# Altium footprint library C2Sv0 - Processor.PcbLib: 32 footprints (part 2 of 2)
Each footprint in its own frame and in the unit in brackets; x right, y up, seen from the top. Pads: shape width x height; smd on the part's side, far side on the other; paste and mask are expansions set on the pad; w line width, h text height; cw(c..) or ccw(c..) is an arc to the next point about the centre after c.
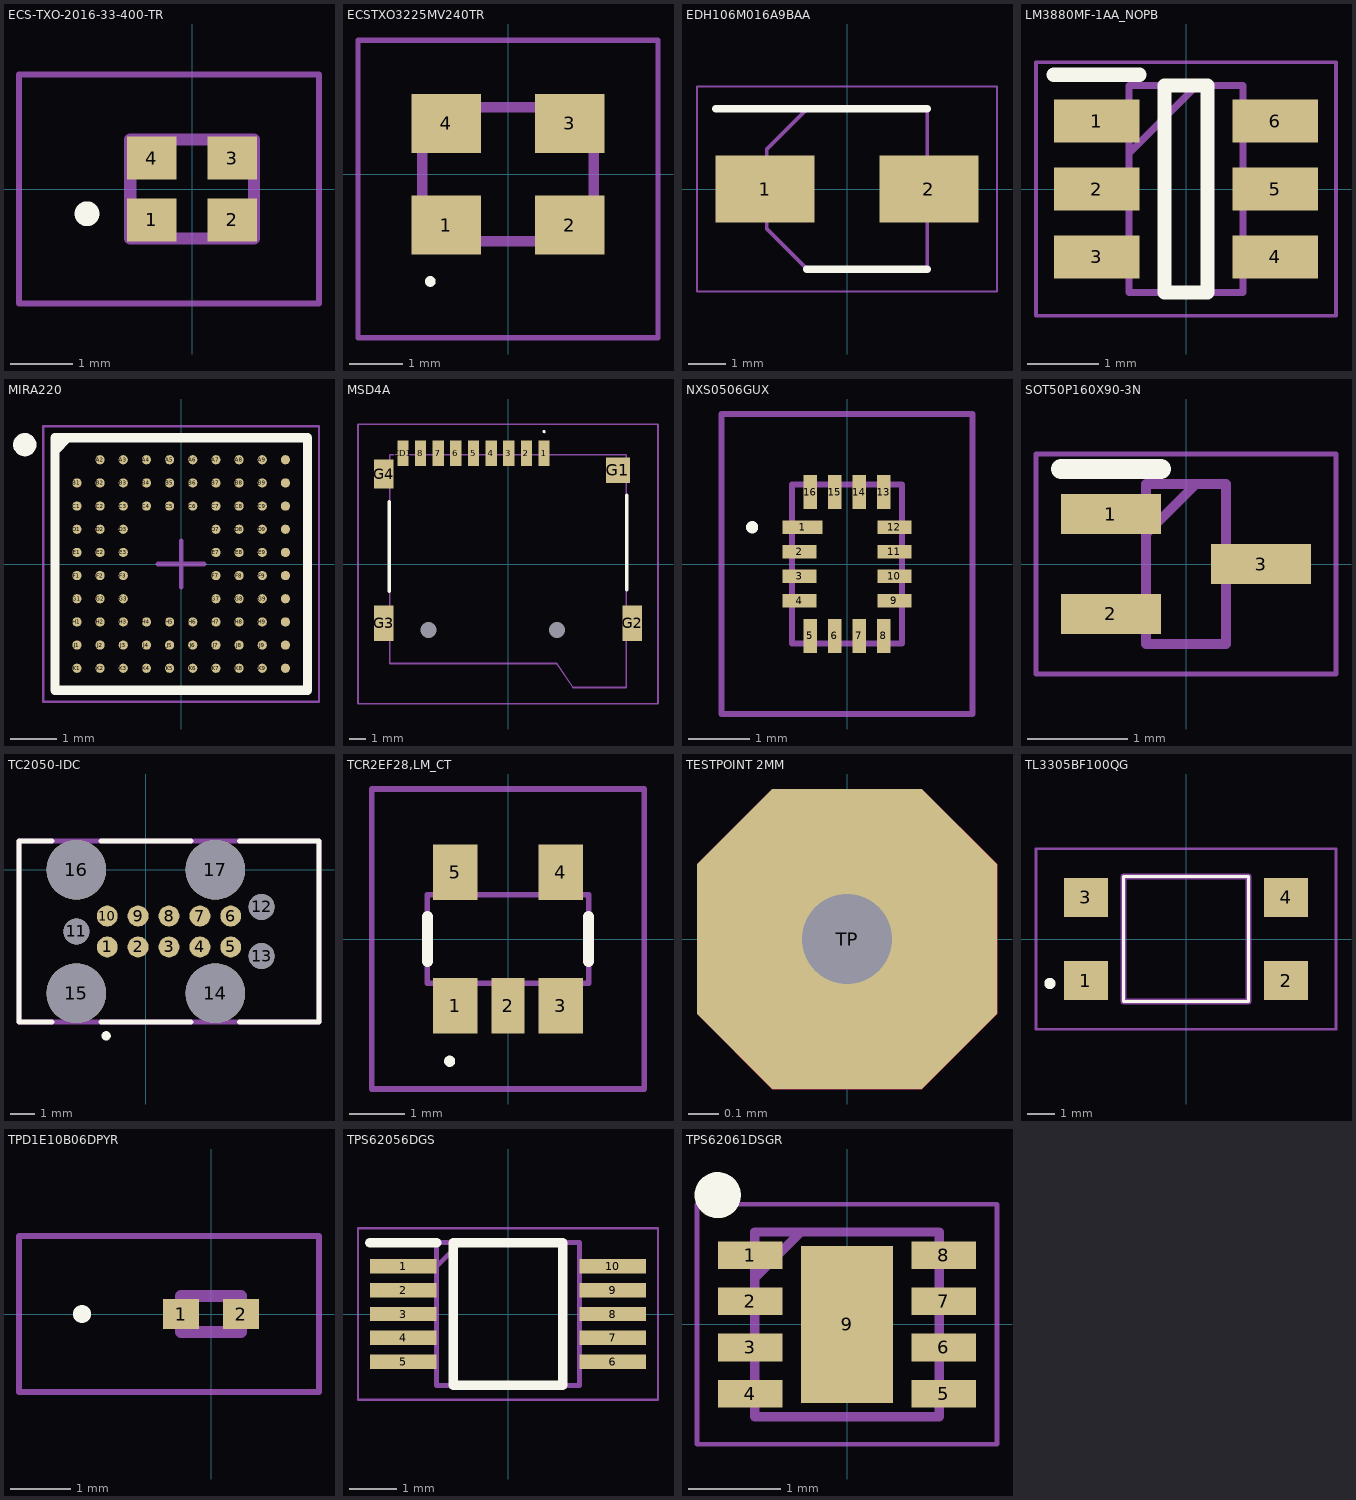
[diagram p1: the footprints below, top view; thin cyan lines are the x and y axes]

## ECS-TXO-2016-33-400-TR [mm]
pads (4):
  rect 0.8x0.7 smd: 1(-0.65,-0.5) 2(0.65,-0.5) 3(0.65,0.5) 4(-0.65,0.5)
Top Overlay:
  lines w0.2: -1.7,-0.5 ccw(c-1.7,-0.4) -1.7,-0.3 ccw(c-1.7,-0.4) -1.7,-0.5
Mechanical 13:
  lines w0.2: -1,-0.8 -1,0.8 1,0.8 1,-0.8 -1,-0.8
Mechanical 15:
  lines w0.1: -2.8,-1.85 -2.8,1.85 2.05,1.85 2.05,-1.85 -2.8,-1.85
3D body "ECS-TXO-2016-33-400-TR.stp": height 0.9, standoff 0, extent -1,-0.8 1,0.8

## ECSTXO3225MV240TR [mm]
pads (4):
  rect 1.3x1.1 smd: 1(-1.15,-0.95) 2(1.15,-0.95) 3(1.15,0.95) 4(-1.15,0.95)
Top Overlay:
  lines w0.1: -1.5,-2 cw(c-1.45,-2) -1.4,-2 cw(c-1.45,-2) -1.5,-2
Mechanical 13:
  lines w0.2: -1.6,-1.25 -1.6,1.25 1.6,1.25 1.6,-1.25 -1.6,-1.25
Mechanical 15:
  lines w0.1: -2.8,-3.05 -2.8,2.5 2.8,2.5 2.8,-3.05 -2.8,-3.05
3D body "ECS-TXO-3225MV-240-TR.stp": height 1.3, standoff 0, extent -1.69,-1.39 1.69,1.39

## EDH106M016A9BAA [mm]
pads (2):
  rect 2.65x1.8 smd: 1(-2.2,0) 2(2.2,0)
Top Overlay:
  lines w0.2: -3.525,2.15 2.15,2.15 ; -1.075,-2.15 2.15,-2.15
Mechanical 13:
  lines w0.1: -2.15,-1.075 -1.075,-2.15 2.15,-2.15 2.15,2.15 -1.075,2.15 -2.15,1.075 -2.15,-1.075
Mechanical 15:
  lines w0.05: -4.025,-2.75 -4.025,2.75 4.025,2.75 4.025,-2.75 -4.025,-2.75
3D body "EDH106M016A9BAA.stp": height 5.66, standoff 0, extent -2.6,-2.25 2.6,2.25

## LM3880MF-1AA_NOPB [mm]
pads (6):
  rect 1.2x0.6 smd: 1(-1.25,0.95) 2(-1.25,0) 3(-1.25,-0.95) 4(1.25,-0.95) 5(1.25,0) 6(1.25,0.95)
Top Overlay:
  lines w0.2: -1.85,1.6 -0.65,1.6 ; -0.3,-1.45 0.3,-1.45 0.3,1.45 -0.3,1.45 -0.3,-1.45
Mechanical 13:
  lines w0.1: -0.8,0.5 0.15,1.45 ; -0.8,-1.45 0.8,-1.45 0.8,1.45 -0.8,1.45 -0.8,-1.45
Mechanical 15:
  lines w0.05: -2.1,-1.775 2.1,-1.775 2.1,1.775 -2.1,1.775 -2.1,-1.775
3D body "LM3880MF-1AA_NOPB.stp": height 1.45, standoff 0, extent -1.4,-1.45 1.4,1.45

## M12 Lens Mount [mm]

## MIRA220 [mm]
height 0.8
pads (87):
  round 0.2 smd mask+0.051: A2(-1.75,2.25) A3(-1.25,2.25) A4(-0.75,2.25) A5(-0.25,2.25) A6(0.25,2.25) A7(0.75,2.25) A8(1.25,2.25) A9(1.75,2.25) A10(2.25,2.25) B1(-2.25,1.75) B2(-1.75,1.75) B3(-1.25,1.75) B4(-0.75,1.75) B5(-0.25,1.75) B6(0.25,1.75) B7(0.75,1.75) B8(1.25,1.75) B9(1.75,1.75) B10(2.25,1.75) C1(-2.25,1.25) C2(-1.75,1.25) C3(-1.25,1.25) C4(-0.75,1.25) C5(-0.25,1.25) C6(0.25,1.25) C7(0.75,1.25) C8(1.25,1.25) C9(1.75,1.25) C10(2.25,1.25) D1(-2.25,0.75) D2(-1.75,0.75) D3(-1.25,0.75) D7(0.75,0.75) D8(1.25,0.75) D9(1.75,0.75) D10(2.25,0.75) E1(-2.25,0.25) E2(-1.75,0.25) E3(-1.25,0.25) E7(0.75,0.25) E8(1.25,0.25) E9(1.75,0.25) E10(2.25,0.25) F1(-2.25,-0.25) F2(-1.75,-0.25) F3(-1.25,-0.25) F7(0.75,-0.25) F8(1.25,-0.25) F9(1.75,-0.25) F10(2.25,-0.25) G1(-2.25,-0.75) G2(-1.75,-0.75) G3(-1.25,-0.75) G7(0.75,-0.75) G8(1.25,-0.75) G9(1.75,-0.75) G10(2.25,-0.75) H1(-2.25,-1.25) H2(-1.75,-1.25) H3(-1.25,-1.25) H4(-0.75,-1.25) H5(-0.25,-1.25) H6(0.25,-1.25) H7(0.75,-1.25) H8(1.25,-1.25) H9(1.75,-1.25) H10(2.25,-1.25) J1(-2.25,-1.75) J2(-1.75,-1.75) J3(-1.25,-1.75) J4(-0.75,-1.75) J5(-0.25,-1.75) J6(0.25,-1.75) J7(0.75,-1.75) J8(1.25,-1.75) J9(1.75,-1.75) J10(2.25,-1.75) K1(-2.25,-2.25) K2(-1.75,-2.25) K3(-1.25,-2.25) K4(-0.75,-2.25) K5(-0.25,-2.25) K6(0.25,-2.25) K7(0.75,-2.25) K8(1.25,-2.25) K9(1.75,-2.25) K10(2.25,-2.25)
Top Overlay:
  circle w0.25: c-3.375,2.575 r0.125
  region: -2.447,2.725 -2.725,2.447 -2.725,2.725
  lines w0.2: -2.725,2.447 -2.447,2.725 ; -2.725,-2.725 2.725,-2.725 2.725,2.725 -2.725,2.725 -2.725,-2.725
Mechanical 13:
  lines w0.1: -2.725,-2.72 2.725,-2.72 2.725,2.72 -2.725,2.72 -2.725,-2.72
Mechanical 15:
  lines w0.05: -2.975,-2.975 2.975,-2.975 2.975,2.975 -2.975,2.975 -2.975,-2.975
  lines w0.1: -0.5,0 0.5,0 ; 0,-0.5 0,0.5
3D body: height 0.8, standoff 0.08, extent -2.725,-2.72 2.725,2.72

## MSD4A [mm]
pads (15):
  rect 0.7x1.6 smd: 1(2.25,6.9) 2(1.15,6.9) 3(0.05,6.9) 4(-1.05,6.9) 5(-2.15,6.9) 6(-3.25,6.9) 7(-4.35,6.9) 8(-5.45,6.9) CD1(-6.55,6.9)
  rect 1.5x1.6 smd: G1(6.85,5.85)
  rect 1.2x2.2 smd: G2(7.75,-3.7) G3(-7.75,-3.7)
  rect 1.2x1.8 smd: G4(-7.75,5.6)
  round 0.5 hole 1 unplated: MH1(3.05,-4.1) MH2(-4.95,-4.1)
Top Overlay:
  lines w0.1: 2.25,8.2 ccw(c2.25,8.25) 2.25,8.3 ccw(c2.25,8.25) 2.25,8.2
  lines w0.2: -7.4,-1.7 -7.4,3.9 ; 7.4,-1.6 7.4,4.3
Mechanical 13:
  lines w0.1: -7.375,-6.2 -7.375,6.8 3.05,6.8 7.375,6.8 7.375,-7.7 4.05,-7.7 3.05,-6.2 -7.375,-6.2
Mechanical 15:
  lines w0.1: -9.35,-8.7 9.35,-8.7 9.35,8.7 -9.35,8.7 -9.35,-8.7
3D body "MSD-4-A.stp": height 1.9, standoff -0.5, extent -8.16,-7.79 7.99,7.26

## NXS0506GUX [mm]
pads (16):
  rect 0.65x0.22 smd: 1(-0.725,0.6)
  rect 0.55x0.22 smd: 2(-0.775,0.2) 3(-0.775,-0.2) 4(-0.775,-0.6) 9(0.775,-0.6) 10(0.775,-0.2) 11(0.775,0.2) 12(0.775,0.6)
  rect 0.22x0.55 smd: 5(-0.6,-1.175) 6(-0.2,-1.175) 7(0.2,-1.175) 8(0.6,-1.175) 13(0.6,1.175) 14(0.2,1.175) 15(-0.2,1.175) 16(-0.6,1.175)
Top Overlay:
  lines w0.1: -1.6,0.6 cw(c-1.55,0.6) -1.5,0.6 cw(c-1.55,0.6) -1.6,0.6
Mechanical 13:
  lines w0.1: -0.9,-1.3 -0.9,1.3 0.9,1.3 0.9,-1.3 -0.9,-1.3
Mechanical 15:
  lines w0.1: -2.05,-2.45 -2.05,2.45 2.05,2.45 2.05,-2.45 -2.05,-2.45
3D body "NXS0506GUX.stp": height 0.6, standoff 0, extent -0.9,-1.3 0.9,1.3

## SOT50P160X90-3N [mm]
pads (3):
  rect 1x0.4 smd: 1(-0.75,0.5) 2(-0.75,-0.5) 3(0.75,0)
Top Overlay:
  lines w0.2: -1.25,0.95 -0.25,0.95
Mechanical 13:
  lines w0.1: -0.4,0.3 0.1,0.8 ; -0.4,-0.8 0.4,-0.8 0.4,0.8 -0.4,0.8 -0.4,-0.8
Mechanical 15:
  lines w0.05: -1.5,-1.1 1.5,-1.1 1.5,1.1 -1.5,1.1 -1.5,-1.1
3D body "DMG1012T.stp": height 0.9, standoff 0, extent -0.8,-0.8 0.8,0.8

## TC2050-IDC [mil]
pads (17):
  round 34 smd: 1(-62.5,-125) 2(-12.5,-125) 3(37.5,-125) 4(87.5,-125) 5(137.5,-125) 6(137.5,-75) 7(87.5,-75) 8(37.5,-75) 9(-12.5,-75) 10(-62.5,-75)
  round 42 hole 42 unplated: 11(-112.5,-100) 12(187.5,-60.04) 13(187.5,-139.96)
  round 96.5 hole 96.5 unplated: 14(112.5,-200) 15(-112.5,-200) 16(-112.5,0) 17(112.5,0)
Top Overlay:
  circle w7.87: c-64.35,-268.98 r3.58
  lines w7.87: -151.75,-246.75 -205.41,-246.75 -205.41,46.75 -151.75,46.75 ; -72.93,-246.75 72.93,-246.75 ; -72.93,46.75 72.93,46.75 ; 151.59,-246.75 280.41,-246.75 280.41,46.75 151.59,46.75
Mechanical 13:
  lines w7.87: -205.41,-246.75 -205.41,46.75 280.41,46.75 280.41,-246.75 -205.41,-246.75
3D body "TC2050-IDC.stp": height 8190.7, standoff -17.96, extent -304.57,-260.24 379.68,41.65

## TCR2EF28,LM_CT [mm]
pads (5):
  rect 0.8x1 smd: 1(-0.95,-1.2) 3(0.95,-1.2) 4(0.95,1.2) 5(-0.95,1.2)
  rect 0.6x1 smd: 2(0,-1.2)
Top Overlay:
  lines w0.1: -1.1,-2.2 cw(c-1.05,-2.2) -1,-2.2 cw(c-1.05,-2.2) -1.1,-2.2
  lines w0.2: -1.45,-0.4 -1.45,0.4 ; 1.45,-0.4 1.45,0.4
Mechanical 13:
  lines w0.1: -1.45,-0.8 1.45,-0.8 1.45,0.8 -1.45,0.8 -1.45,-0.8
Mechanical 15:
  lines w0.1: -2.45,-2.7 2.45,-2.7 2.45,2.7 -2.45,2.7 -2.45,-2.7
3D body "TCR2EF28,LM_CT.stp": height 1.5, standoff 0, extent -1.45,-0.8 1.45,0.8

## TESTPOINT 2MM [mm]
pads (1):
  oct 1x1 hole 0.3: TP(0,0)
Top Layer:
  region: -0.25,-0.5 -0.5,-0.25 -0.5,0.25 -0.25,0.5 0.25,0.5 0.5,0.25 0.5,-0.25 0.25,-0.5
Bottom Layer:
  region: -0.25,-0.5 -0.5,-0.25 -0.5,0.25 -0.25,0.5 0.25,0.5 0.5,0.25 0.5,-0.25 0.25,-0.5

## TL3305BF100QG [mm]
pads (4):
  rect 1.6x1.4 smd: 1(-3.6,-1.5) 2(3.6,-1.5) 3(-3.6,1.5) 4(3.6,1.5)
Top Overlay:
  lines w0.1: -2.25,-2.25 2.25,-2.25 2.25,2.25 -2.25,2.25 -2.25,-2.25
  lines w0.2: -5,-1.6 cw(c-4.9,-1.6) -4.8,-1.6 cw(c-4.9,-1.6) -5,-1.6
Mechanical 13:
  lines w0.2: -2.25,-2.25 2.25,-2.25 2.25,2.25 -2.25,2.25 -2.25,-2.25
Mechanical 15:
  lines w0.1: -5.4,-3.25 5.4,-3.25 5.4,3.25 -5.4,3.25 -5.4,-3.25
3D body "TL3305BF100QG.stp": height 4.9, standoff -0.1, extent -3.75,-2.25 3.75,2.25

## TPD1E10B06DPYR [mm]
pads (2):
  rect 0.6x0.5 smd: 1(-0.5,0) 2(0.5,0)
Top Overlay:
  lines w0.2: -2.2,0 ccw(c-2.15,0) -2.1,0 ; -2.2,0 cw(c-2.15,0) -2.1,0 ; -2.2,0 ccw(c-2.15,0) -2.1,0
Mechanical 13:
  lines w0.2: -0.5,-0.3 0.5,-0.3 0.5,0.3 -0.5,0.3 -0.5,-0.3
Mechanical 15:
  lines w0.1: -3.2,-1.3 1.8,-1.3 1.8,1.3 -3.2,1.3 -3.2,-1.3
3D body "TPD1E10B06DPYR.stp": height 0.38, standoff 0, extent -0.5,-0.3 0.5,0.3

## TPS62056DGS [mm]
pads (10):
  rect 1.4x0.3 smd: 1(-2.2,1) 2(-2.2,0.5) 3(-2.2,0) 4(-2.2,-0.5) 5(-2.2,-1) 6(2.2,-1) 7(2.2,-0.5) 8(2.2,0) 9(2.2,0.5) 10(2.2,1)
Top Overlay:
  lines w0.2: -2.9,1.5 -1.5,1.5 ; -1.15,-1.5 1.15,-1.5 1.15,1.5 -1.15,1.5 -1.15,-1.5
Mechanical 13:
  lines w0.1: -1.5,1 -1,1.5 ; -1.5,-1.5 1.5,-1.5 1.5,1.5 -1.5,1.5 -1.5,-1.5
Mechanical 15:
  lines w0.05: -3.15,-1.8 3.15,-1.8 3.15,1.8 -3.15,1.8 -3.15,-1.8
3D body "TPS62056DGS.stp": height 1.1, standoff 0, extent -2.463,-1.5 2.463,1.5

## TPS62061DSGR [mm]
pads (9):
  rect 0.7x0.3 smd: 1(-1.05,0.75) 2(-1.05,0.25) 3(-1.05,-0.25) 4(-1.05,-0.75) 5(1.05,-0.75) 6(1.05,-0.25) 7(1.05,0.25) 8(1.05,0.75)
  rect 1x1.7 smd: 9(0,0)
Top Overlay:
  circle w0.25: c-1.4,1.4 r0.125
Mechanical 13:
  lines w0.1: -1,0.5 -0.5,1 ; -1,-1 1,-1 1,1 -1,1 -1,-1
Mechanical 15:
  lines w0.05: -1.625,-1.3 1.625,-1.3 1.625,1.3 -1.625,1.3 -1.625,-1.3
3D body "TPS62061DSGR.stp": height 0.77, standoff 0, extent -1,-1 1,1